# EAGLE library part CONN_2X25_ZZ (library GPLIB_CONN)
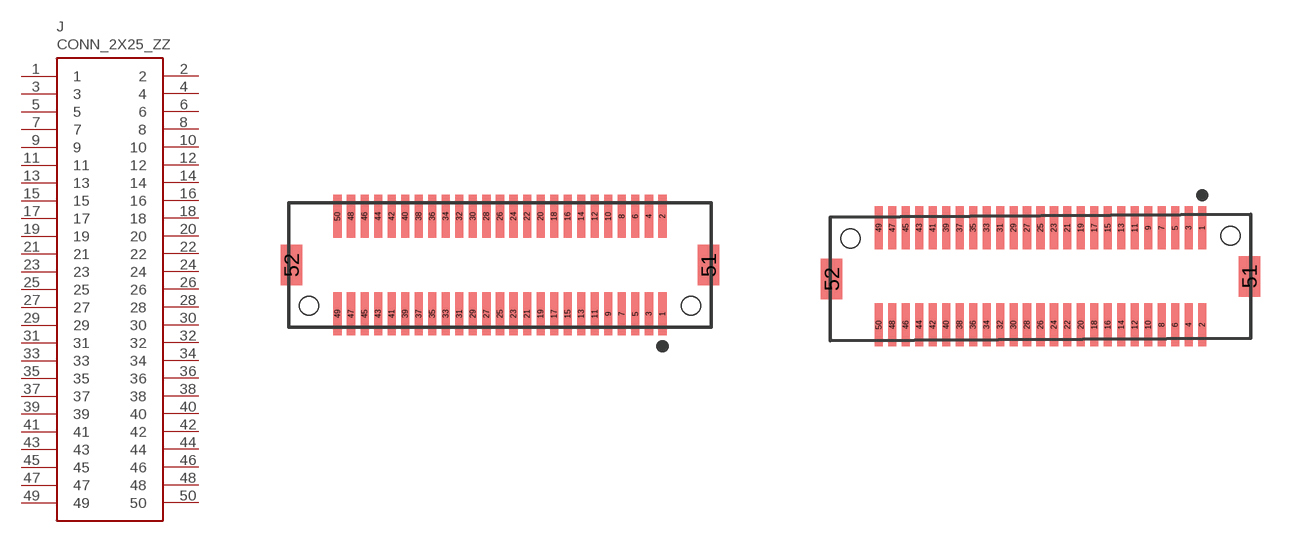
[diagram p12: symbol with the pads of CONN_2X25_0.5MM_SM_ST_10132798_RECEPTACLE; footprints CONN_2X25_0.5MM_SM_ST_10132798_RECEPTACLE, CONN_2X25_0.5MM_SM_ST_10132797_PLUG]

Designator prefix J

## CONN_2X25_ZZ_10132798  [CONN_2X25_0.5MM_SM_ST_10132798_RECEPTACLE]
1  1  pas
2  2  pas
3  3  pas
4  4  pas
5  5  pas
6  6  pas
7  7  pas
8  8  pas
9  9  pas
10  10  pas
11  11  pas
12  12  pas
13  13  pas
14  14  pas
15  15  pas
16  16  pas
17  17  pas
18  18  pas
19  19  pas
20  20  pas
21  21  pas
22  22  pas
23  23  pas
24  24  pas
25  25  pas
26  26  pas
27  27  pas
28  28  pas
29  29  pas
30  30  pas
31  31  pas
32  32  pas
33  33  pas
34  34  pas
35  35  pas
36  36  pas
37  37  pas
38  38  pas
39  39  pas
40  40  pas
41  41  pas
42  42  pas
43  43  pas
44  44  pas
45  45  pas
46  46  pas
47  47  pas
48  48  pas
49  49  pas
50  50  pas

## CONN_2X25_ZZ_10132797-057100LF  [CONN_2X25_0.5MM_SM_ST_10132797_PLUG]
Pads as for CONN_2X25_0.5MM_SM_ST_10132798_RECEPTACLE

## Footprint CONN_2X25_0.5MM_SM_ST_10132798_RECEPTACLE (pad centres in mm)
smd 0.3 x 1.6: 1 6,-1.8; 2 6,1.8; 3 5.5,-1.8; 4 5.5,1.8; 5 5,-1.8; 6 5,1.8; 7 4.5,-1.8; 8 4.5,1.8; 9 4,-1.8; 10 4,1.8; 11 3.5,-1.8; 12 3.5,1.8; 13 3,-1.8; 14 3,1.8; 15 2.5,-1.8; 16 2.5,1.8; 17 2,-1.8; 18 2,1.8; 19 1.5,-1.8; 20 1.5,1.8; 21 1,-1.8; 22 1,1.8; 23 0.5,-1.8; 24 0.5,1.8; 25 0,-1.8; 26 0,1.8; 27 -0.5,-1.8; 28 -0.5,1.8; 29 -1,-1.8; 30 -1,1.8; 31 -1.5,-1.8; 32 -1.5,1.8; 33 -2,-1.8; 34 -2,1.8; 35 -2.5,-1.8; 36 -2.5,1.8; 37 -3,-1.8; 38 -3,1.8; 39 -3.5,-1.8; 40 -3.5,1.8; 41 -4,-1.8; 42 -4,1.8; 43 -4.5,-1.8; 44 -4.5,1.8; 45 -5,-1.8; 46 -5,1.8; 47 -5.5,-1.8; 48 -5.5,1.8; 49 -6,-1.8; 50 -6,1.8
smd 0.8 x 1.5: 51 7.7,0; 52 -7.7,0
hole 0.7 at -7.05,-1.5
hole 0.7 at 7.05,-1.5

## Footprint CONN_2X25_0.5MM_SM_ST_10132797_PLUG (pad centres in mm)
smd 0.3 x 1.6: 1 6,1.8; 2 6,-1.8; 3 5.5,1.8; 4 5.5,-1.8; 5 5,1.8; 6 5,-1.8; 7 4.5,1.8; 8 4.5,-1.8; 9 4,1.8; 10 4,-1.8; 11 3.5,1.8; 12 3.5,-1.8; 13 3,1.8; 14 3,-1.8; 15 2.5,1.8; 16 2.5,-1.8; 17 2,1.8; 18 2,-1.8; 19 1.5,1.8; 20 1.5,-1.8; 21 1,1.8; 22 1,-1.8; 23 0.5,1.8; 24 0.5,-1.8; 25 0,1.8; 26 0,-1.8; 27 -0.5,1.8; 28 -0.5,-1.8; 29 -1,1.8; 30 -1,-1.8; 31 -1.5,1.8; 32 -1.5,-1.8; 33 -2,1.8; 34 -2,-1.8; 35 -2.5,1.8; 36 -2.5,-1.8; 37 -3,1.8; 38 -3,-1.8; 39 -3.5,1.8; 40 -3.5,-1.8; 41 -4,1.8; 42 -4,-1.8; 43 -4.5,1.8; 44 -4.5,-1.8; 45 -5,1.8; 46 -5,-1.8; 47 -5.5,1.8; 48 -5.5,-1.8; 49 -6,1.8; 50 -6,-1.8
smd 0.8 x 1.5: 51 7.75,0; 52 -7.75,-0.1
hole 0.7 at -7.05,1.4
hole 0.7 at 7.05,1.5